# Altium schematic symbol library Juglans.SchLib: 3 symbols
Pins are listed as number, name and electrical type; pins without a type are passive.

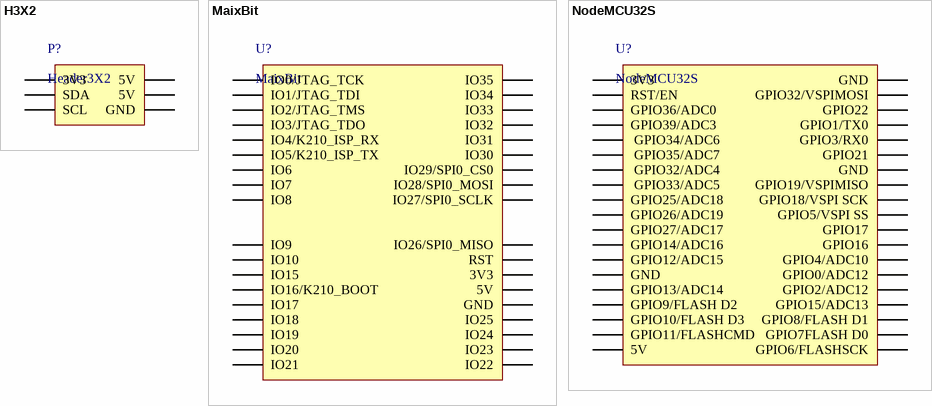
[diagram p0: symbols H3X2 to NodeMCU32S]

## H3X2
designator P?, comment Header3X2
pins: 1 3V3, 2 5V, 3 SDA, 4 5V, 5 SCL, 6 GND

## MaixBit
designator U?
pins: 0 IO0/JTAG_TCK, 1 IO1/JTAG_TDI, 2 IO2/JTAG_TMS, 3 IO3/JTAG_TDO, 4 IO4/K210_ISP_RX, 5 IO5/K210_ISP_TX, 6 IO6, 7 IO7, 8 IO8, 9 IO9, 10 IO10, 11 IO15, 12 IO16/K210_BOOT, 13 IO17, 14 IO18, 15 IO19, 16 IO20, 17 IO21, 18 IO22, 19 IO23, 20 IO24, 21 IO25, 22 GND, 23 5V, 24 3V3, 25 RST, 26 IO26/SPI0_MISO, 27 IO27/SPI0_SCLK, 28 IO28/SPI0_MOSI, 29 IO29/SPI0_CS0, 30 IO30, 31 IO31, 32 IO32, 33 IO33, 34 IO34, 35 IO35

## NodeMCU32S
designator U?
pins: 0 3V3, 1 RST/EN, 2 GPIO36/ADC0, 3 GPIO39/ADC3, 4  GPIO34/ADC6, 5  GPIO35/ADC7, 6  GPIO32/ADC4, 7  GPIO33/ADC5, 8 GPIO25/ADC18, 9 GPIO26/ADC19, 10 GPIO27/ADC17, 11 GPIO14/ADC16, 12 GPIO12/ADC15, 13 GND, 14 GPIO13/ADC14, 15 GPIO9/FLASH D2, 16 GPIO10/FLASH D3, 17 GPIO11/FLASHCMD, 18 5V, 19 GPIO6/FLASHSCK, 20 GPIO7FLASH D0, 21 GPIO8/FLASH D1, 22 GPIO15/ADC13, 23 GPIO2/ADC12, 24 GPIO0/ADC12, 25 GPIO4/ADC10, 26 GPIO16, 27 GPIO17, 28 GPIO5/VSPI SS, 29 GPIO18/VSPI SCK, 30 GPIO19/VSPIMISO, 31 GND, 32 GPIO21, 33 GPIO3/RX0, 34 GPIO1/TX0, 35 GPIO22, 36 GPIO32/VSPIMOSI, 37 GND